# Altium integrated library TI_Logic_Specialty_Logic.IntLib: 2504 symbols (part 80 of 81)
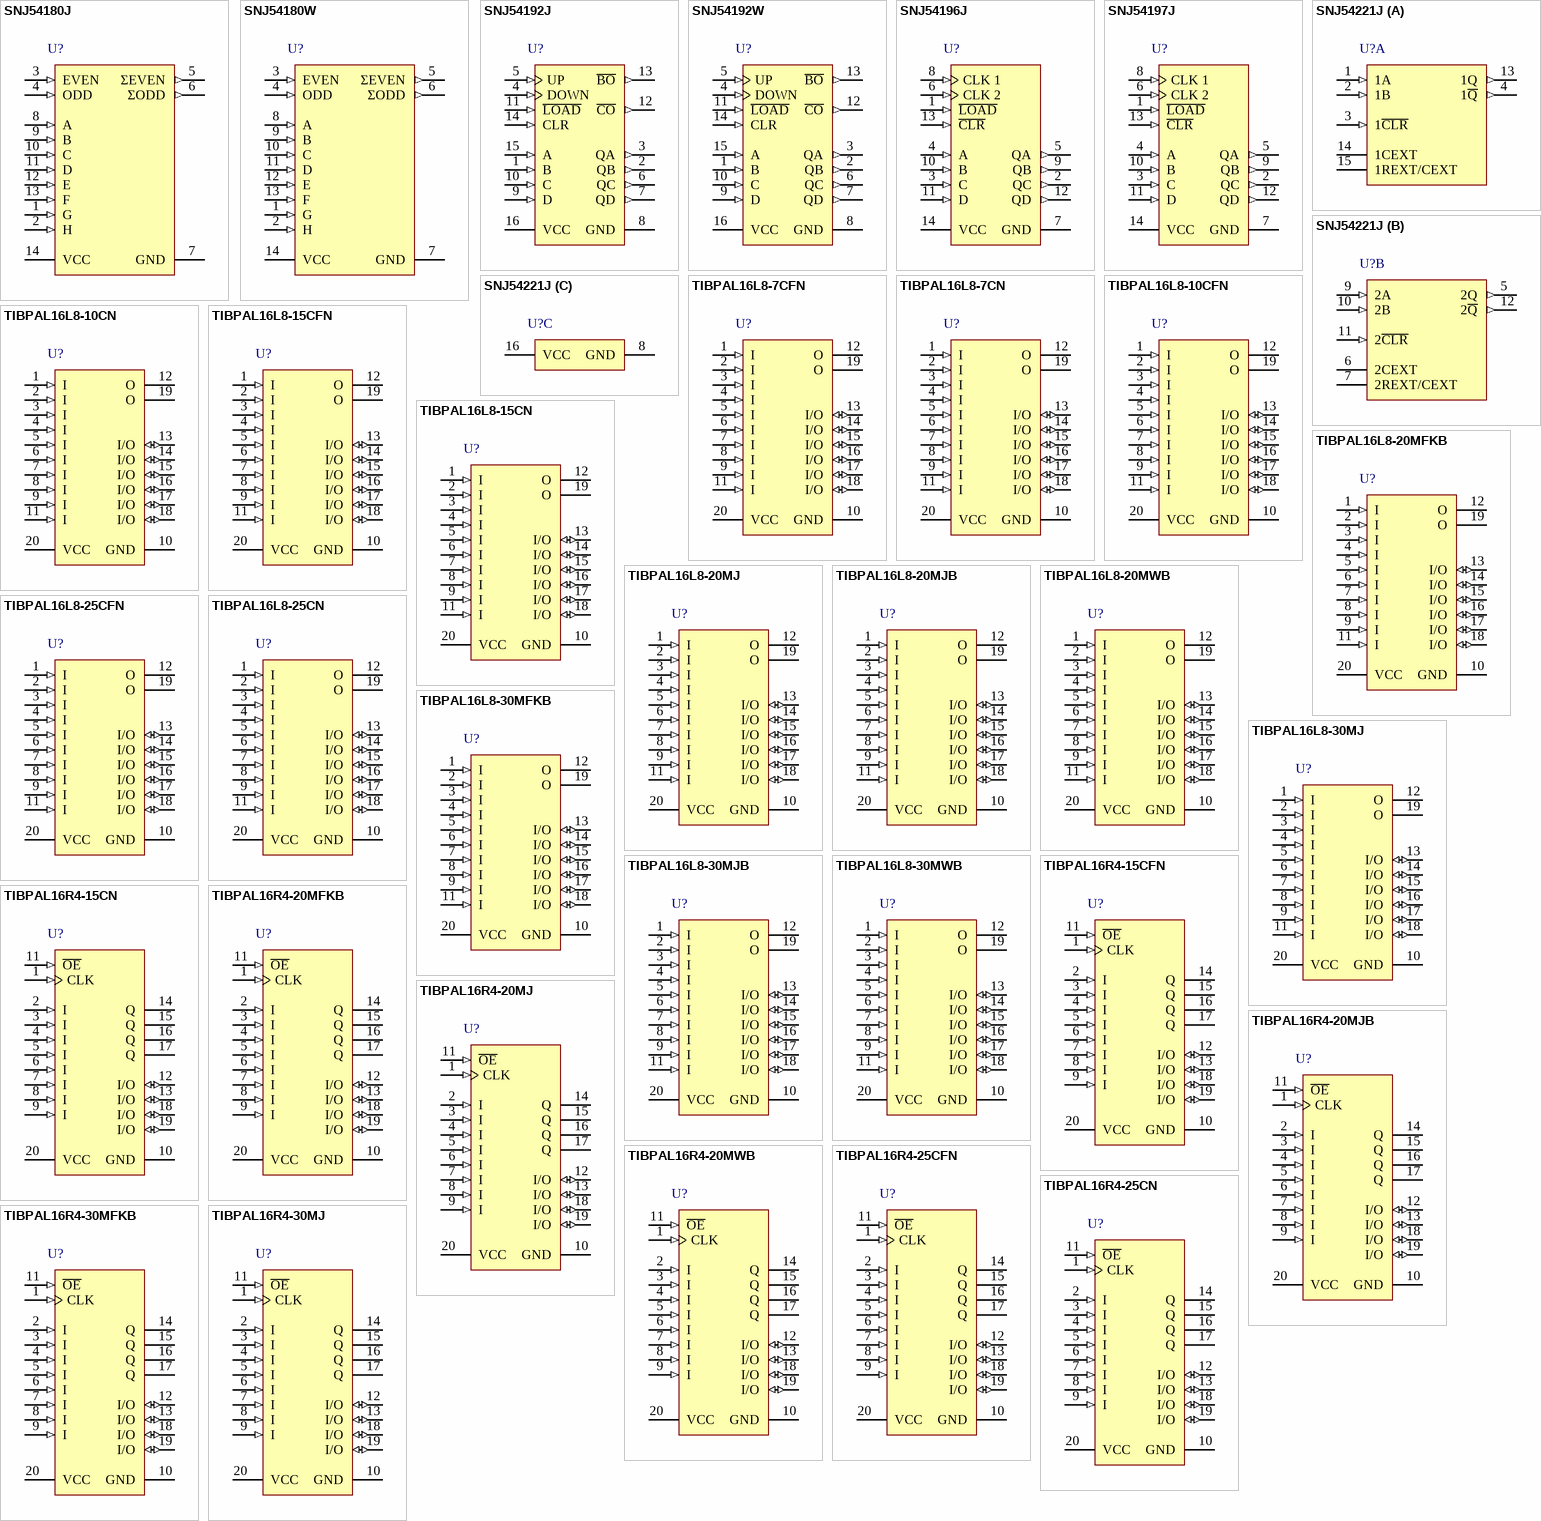
[diagram p183: symbols SNJ54180J to TIBPAL16R4-30MJ]

## SNJ54180W
designator U?
9-Bit Odd/Even Parity Generators/Checkers, W0014A, TUBE; Generic Part Number: SN54180; Manufacturer: Texas Instruments; PartNumber: SNJ54180W; Rating: Military; Technology Family: TTL; PackageReference: W0014A; Operating Temperature Range(C): -55 to 125; ComponentLink1Description: Manufacturer URL; ComponentLink1URL: http://www.ti.com/; ComponentLink2Description: Datasheet; ComponentLink2URL: http://www.ti.com/lit/ds/symlink/sn54180.pdf; ComponentLink3Description: Package Specification; ComponentLink3URL: http://www.ti.com/lit/ml/mcfp002c/mcfp002c.pdf
footprint W0014A_N (CFP, 14-Leads, Body 9.91x6.6mm, Pitch 1.27mm, IPC Medium Density)
footprint W0014A_M (CFP, 14-Leads, Body 9.91x6.6mm, Pitch 1.27mm, IPC Low Density)
footprint W0014A_L (CFP, 14-Leads, Body 9.91x6.6mm, Pitch 1.27mm, IPC High Density)
pins: 1 G (in), 2 H (in), 3 EVEN (in), 4 ODD (in), 5 ΣEVEN (out), 6 ΣODD (out), 7 GND (power), 8 A (in), 9 B (in), 10 C (in), 11 D (in), 12 E (in), 13 F (in), 14 VCC (power)

## SNJ54192J
designator U?
Synchronous 4-Bit Up/Down Counters (Dual Clock With Clear), J0016A, TUBE; Generic Part Number: SN54192; Manufacturer: Texas Instruments; PartNumber: SNJ54192J; Rating: Military; Technology Family: TTL; DatasheetVersion: SDLS074; PackageReference: J0016A; Operating Temperature Range(C): -55 to 125; ComponentLink1Description: Manufacturer URL; ComponentLink1URL: http://www.ti.com/; ComponentLink2Description: Datasheet; ComponentLink2URL: http://www.ti.com/lit/ds/symlink/sn54192.pdf; ComponentLink3Description: Package Specification; ComponentLink3URL: http://www.ti.com/lit/ml/mcer002d/mcer002d.pdf
footprint J0016A (DIP, 16-Leads, Body 21.35x7.2mm, Pitch 2.54mm)
pins: 1 B (in), 2 QB (out), 3 QA (out), 4 DOWN (in), 5 UP (in), 6 QC (out), 7 QD (out), 8 GND (power), 9 D (in), 10 C (in), 11 ~{LOAD} (in), 12 ~{CO} (out), 13 ~{BO} (out), 14 CLR (in), 15 A (in), 16 VCC (power)

## SNJ54192W
designator U?
Synchronous 4-Bit Up/Down Counters (Dual Clock With Clear), W0016A, TUBE; Generic Part Number: SN54192; Manufacturer: Texas Instruments; PartNumber: SNJ54192W; Rating: Military; Technology Family: TTL; DatasheetVersion: SDLS074; PackageReference: W0016A; Operating Temperature Range(C): -55 to 125; ComponentLink1Description: Manufacturer URL; ComponentLink1URL: http://www.ti.com/; ComponentLink2Description: Datasheet; ComponentLink2URL: http://www.ti.com/lit/ds/symlink/sn54192.pdf; ComponentLink3Description: Package Specification; ComponentLink3URL: http://www.ti.com/lit/ml/mcfp004c/mcfp004c.pdf
footprint W0016A_N (CFP, 16-Leads, Body 10.92x7.24mm, Pitch 1.27mm, IPC Medium Density)
footprint W0016A_M (CFP, 16-Leads, Body 10.92x7.24mm, Pitch 1.27mm, IPC Low Density)
footprint W0016A_L (CFP, 16-Leads, Body 10.92x7.24mm, Pitch 1.27mm, IPC High Density)
pins: 1 B (in), 2 QB (out), 3 QA (out), 4 DOWN (in), 5 UP (in), 6 QC (out), 7 QD (out), 8 GND (power), 9 D (in), 10 C (in), 11 ~{LOAD} (in), 12 ~{CO} (out), 13 ~{BO} (out), 14 CLR (in), 15 A (in), 16 VCC (power)

## SNJ54196J
designator U?
50/30/100-Mhz Presettable Decade OR Binary Counters/Latches, J0014A, TUBE; Generic Part Number: SN54196; Manufacturer: Texas Instruments; PartNumber: SNJ54196J; Rating: Military; Technology Family: TTL; DatasheetVersion: SDLS077; PackageReference: J0014A; Operating Temperature Range(C): -55 to 125; ComponentLink1Description: Manufacturer URL; ComponentLink1URL: http://www.ti.com/; ComponentLink2Description: Datasheet; ComponentLink2URL: http://www.ti.com/lit/ds/symlink/sn54196.pdf; ComponentLink3Description: Package Specification; ComponentLink3URL: http://www.ti.com/lit/ml/mcer002d/mcer002d.pdf
footprint J0014A (DIP, 14-Leads, Body 19.95x7.2mm, Pitch 2.54mm)
pins: 1 ~{LOAD} (in), 2 QC (out), 3 C (in), 4 A (in), 5 QA (out), 6 CLK 2 (in), 7 GND (power), 8 CLK 1 (in), 9 QB (out), 10 B (in), 11 D (in), 12 QD (out), 13 ~{CLR} (in), 14 VCC (power)

## SNJ54197J
designator U?
50/30/100-Mhz Presettable Decade OR Binary Counters/Latches, J0014A, TUBE; Generic Part Number: SN54197; Manufacturer: Texas Instruments; PartNumber: SNJ54197J; Rating: Military; Technology Family: TTL; DatasheetVersion: SDLS077; PackageReference: J0014A; Operating Temperature Range(C): -55 to 125; ComponentLink1Description: Manufacturer URL; ComponentLink1URL: http://www.ti.com/; ComponentLink2Description: Datasheet; ComponentLink2URL: http://www.ti.com/lit/ds/symlink/sn54197.pdf; ComponentLink3Description: Package Specification; ComponentLink3URL: http://www.ti.com/lit/ml/mcer002d/mcer002d.pdf
footprint J0014A (DIP, 14-Leads, Body 19.95x7.2mm, Pitch 2.54mm)
pins: 1 ~{LOAD} (in), 2 QC (out), 3 C (in), 4 A (in), 5 QA (out), 6 CLK 2 (in), 7 GND (power), 8 CLK 1 (in), 9 QB (out), 10 B (in), 11 D (in), 12 QD (out), 13 ~{CLR} (in), 14 VCC (power)

## SNJ54221J
designator U?
Dual Monostable Multivibrators With Schmitt-trigger Inputs, J0016A, TUBE; Generic Part Number: SN54221; Manufacturer: Texas Instruments; PartNumber: SNJ54221J; VCC(Min)(V): 4.75; VCC(Max)(V): 5.25; Output Type: TTL; ICC @ Nom Voltage(Max)(mA): 80; Bits(#): 2; Rating: Military; Output Drive (IOL/IOH)(Max)(mA): 16/-0.8; DatasheetVersion: SDLS213B; PackageReference: J0016A; Input Type: TTL; Operating Temperature Range(C): -55 to 125; Technology Family: TTL; tpd @ Nom Voltage(Max)(ns): 80; ComponentLink1Description: Manufacturer URL; ComponentLink1URL: http://www.ti.com/; ComponentLink2Description: Datasheet; ComponentLink2URL: http://www.ti.com/lit/ds/symlink/sn54221.pdf; ComponentLink3Description: Package Specification; ComponentLink3URL: http://www.ti.com/lit/ml/mcer002d/mcer002d.pdf
footprint J0016A (DIP, 16-Leads, Body 21.35x7.2mm, Pitch 2.54mm)
part A pins: 1 1A (in), 2 1B (in), 3 1~{CLR} (in), 4 1~{Q} (out), 13 1Q (out), 14 1CEXT, 15 1REXT/CEXT
part B pins: 5 2Q (out), 6 2CEXT, 7 2REXT/CEXT, 9 2A (in), 10 2B (in), 11 2~{CLR} (in), 12 2~{Q} (out)
part C pins: 8 GND (power), 16 VCC (power)

## TIBPAL16L8-7CFN
designator U?
High-Performance Impact-X<TM> PAL<R> Circuits, FN0020A, TUBE; Generic Part Number: TIBPAL16L8-7C; Manufacturer: Texas Instruments; PartNumber: TIBPAL16L8-7CFN; DatasheetVersion: SRPS006E; PackageReference: FN0020A; Supplier 1: Mouser; Supplier Part Number 1: 595-TIBPAL16L8-7CFN; Supplier 2: Digi-Key; Supplier Part Number 2: 296-34236-5-ND; ComponentLink1Description: Manufacturer URL; ComponentLink1URL: http://www.ti.com/; ComponentLink2Description: Datasheet; ComponentLink2URL: http://www.ti.com/lit/ds/symlink/tibpal16l8-7c.pdf
footprint FN0020A_N (Leaded Chip Carrier, 20-Leads, Body 9.04x9.04mm, Pitch 1.27mm, IPC Medium Density)
footprint FN0020A_M (Leaded Chip Carrier, 20-Leads, Body 9.04x9.04mm, Pitch 1.27mm, IPC Low Density)
footprint FN0020A_L (Leaded Chip Carrier, 20-Leads, Body 9.04x9.04mm, Pitch 1.27mm, IPC High Density)
pins: 1 I (in), 2 I (in), 3 I (in), 4 I (in), 5 I (in), 6 I (in), 7 I (in), 8 I (in), 9 I (in), 10 GND (power), 11 I (in), 12 O (hiz), 13 I/O (io), 14 I/O (io), 15 I/O (io), 16 I/O (io), 17 I/O (io), 18 I/O (io), 19 O (hiz), 20 VCC (power)

## TIBPAL16L8-7CN
designator U?
High-Performance Impact-X<TM> PAL<R> Circuits, N0020A, TUBE; Generic Part Number: TIBPAL16L8-7C; Manufacturer: Texas Instruments; PartNumber: TIBPAL16L8-7CN; DatasheetVersion: SRPS006E; PackageReference: N0020A; Supplier 1: Mouser; Supplier Part Number 1: 595-TIBPAL16L8-7CN; Supplier 2: Digi-Key; Supplier Part Number 2: 296-10088-5-ND; Mounting Technology: Through Hole; ComponentLink1Description: Manufacturer URL; ComponentLink1URL: http://www.ti.com/; ComponentLink2Description: Datasheet; ComponentLink2URL: http://www.ti.com/lit/ds/symlink/tibpal16l8-7c.pdf
footprint N0020A (DIP, 20-Leads, Body 26.9x6.6mm, Pitch 2.54mm)
pins: 1 I (in), 2 I (in), 3 I (in), 4 I (in), 5 I (in), 6 I (in), 7 I (in), 8 I (in), 9 I (in), 10 GND (power), 11 I (in), 12 O (hiz), 13 I/O (io), 14 I/O (io), 15 I/O (io), 16 I/O (io), 17 I/O (io), 18 I/O (io), 19 O (hiz), 20 VCC (power)

## TIBPAL16L8-10CFN
designator U?
High-Performance Impact-X<TM> PAL<R> Circuits, FN0020A, TUBE; Generic Part Number: TIBPAL16L8-10C; Manufacturer: Texas Instruments; PartNumber: TIBPAL16L8-10CFN; DatasheetVersion: SRPS017A; PackageReference: FN0020A; Supplier 1: Mouser; Supplier Part Number 1: 595-TIBPAL16L8-10CFN; Supplier 2: Digi-Key; Supplier Part Number 2: 296-10082-5-ND; ComponentLink1Description: Manufacturer URL; ComponentLink1URL: http://www.ti.com/; ComponentLink2Description: Datasheet; ComponentLink2URL: http://www.ti.com/lit/ds/symlink/tibpal16l8-10c.pdf
footprint FN0020A_N (Leaded Chip Carrier, 20-Leads, Body 9.04x9.04mm, Pitch 1.27mm, IPC Medium Density)
footprint FN0020A_M (Leaded Chip Carrier, 20-Leads, Body 9.04x9.04mm, Pitch 1.27mm, IPC Low Density)
footprint FN0020A_L (Leaded Chip Carrier, 20-Leads, Body 9.04x9.04mm, Pitch 1.27mm, IPC High Density)
pins: 1 I (in), 2 I (in), 3 I (in), 4 I (in), 5 I (in), 6 I (in), 7 I (in), 8 I (in), 9 I (in), 10 GND (power), 11 I (in), 12 O (hiz), 13 I/O (io), 14 I/O (io), 15 I/O (io), 16 I/O (io), 17 I/O (io), 18 I/O (io), 19 O (hiz), 20 VCC (power)

## TIBPAL16L8-10CN
designator U?
High-Performance Impact-X<TM> PAL<R> Circuits, N0020A, TUBE; Generic Part Number: TIBPAL16L8-10C; Manufacturer: Texas Instruments; PartNumber: TIBPAL16L8-10CN; DatasheetVersion: SRPS017A; PackageReference: N0020A; Supplier 1: Mouser; Supplier Part Number 1: 595-TIBPAL16L8-10CN; Supplier 2: Digi-Key; Supplier Part Number 2: 296-10083-5-ND; Mounting Technology: Through Hole; ComponentLink1Description: Manufacturer URL; ComponentLink1URL: http://www.ti.com/; ComponentLink2Description: Datasheet; ComponentLink2URL: http://www.ti.com/lit/ds/symlink/tibpal16l8-10c.pdf
footprint N0020A (DIP, 20-Leads, Body 26.9x6.6mm, Pitch 2.54mm)
pins: 1 I (in), 2 I (in), 3 I (in), 4 I (in), 5 I (in), 6 I (in), 7 I (in), 8 I (in), 9 I (in), 10 GND (power), 11 I (in), 12 O (hiz), 13 I/O (io), 14 I/O (io), 15 I/O (io), 16 I/O (io), 17 I/O (io), 18 I/O (io), 19 O (hiz), 20 VCC (power)

## TIBPAL16L8-15CFN
designator U?
High-Performance Impact<TM> PAL<R> Circuits, FN0020A, TUBE; Generic Part Number: TIBPAL16L8-15C; Manufacturer: Texas Instruments; PartNumber: TIBPAL16L8-15CFN; DatasheetVersion: SRPS019A; PackageReference: FN0020A; Supplier 1: Mouser; Supplier Part Number 1: 595-TIBPAL16L8-15CFN; Supplier 2: Digi-Key; Supplier Part Number 2: 296-10084-5-ND; ComponentLink1Description: Manufacturer URL; ComponentLink1URL: http://www.ti.com/; ComponentLink2Description: Datasheet; ComponentLink2URL: http://www.ti.com/lit/ds/symlink/tibpal16l8-15c.pdf
footprint FN0020A_N (Leaded Chip Carrier, 20-Leads, Body 9.04x9.04mm, Pitch 1.27mm, IPC Medium Density)
footprint FN0020A_M (Leaded Chip Carrier, 20-Leads, Body 9.04x9.04mm, Pitch 1.27mm, IPC Low Density)
footprint FN0020A_L (Leaded Chip Carrier, 20-Leads, Body 9.04x9.04mm, Pitch 1.27mm, IPC High Density)
pins: 1 I (in), 2 I (in), 3 I (in), 4 I (in), 5 I (in), 6 I (in), 7 I (in), 8 I (in), 9 I (in), 10 GND (power), 11 I (in), 12 O (hiz), 13 I/O (io), 14 I/O (io), 15 I/O (io), 16 I/O (io), 17 I/O (io), 18 I/O (io), 19 O (hiz), 20 VCC (power)

## TIBPAL16L8-15CN
designator U?
High-Performance Impact<TM> PAL<R> Circuits, N0020A, TUBE; Generic Part Number: TIBPAL16L8-15C; Manufacturer: Texas Instruments; PartNumber: TIBPAL16L8-15CN; DatasheetVersion: SRPS019A; PackageReference: N0020A; Supplier 1: Mouser; Supplier Part Number 1: 595-TIBPAL16L8-15CN; Supplier 2: Digi-Key; Supplier Part Number 2: 296-10085-5-ND; Mounting Technology: Through Hole; ComponentLink1Description: Manufacturer URL; ComponentLink1URL: http://www.ti.com/; ComponentLink2Description: Datasheet; ComponentLink2URL: http://www.ti.com/lit/ds/symlink/tibpal16l8-15c.pdf
footprint N0020A (DIP, 20-Leads, Body 26.9x6.6mm, Pitch 2.54mm)
pins: 1 I (in), 2 I (in), 3 I (in), 4 I (in), 5 I (in), 6 I (in), 7 I (in), 8 I (in), 9 I (in), 10 GND (power), 11 I (in), 12 O (hiz), 13 I/O (io), 14 I/O (io), 15 I/O (io), 16 I/O (io), 17 I/O (io), 18 I/O (io), 19 O (hiz), 20 VCC (power)

## TIBPAL16L8-20MFKB
designator U?
High-Performance Impact<TM> PAL<R> Circuits, FK0020A, TUBE; Generic Part Number: TIBPAL16L8-20M; Manufacturer: Texas Instruments; PartNumber: TIBPAL16L8-20MFKB; Voltage Node(Nom)(V): 5; Rating: Military; DatasheetVersion: SRPS019A; PackageReference: FK0020A; Operating Temperature Range(C): -55 to 125; Code_JEDEC: MS-004; ComponentLink1Description: Manufacturer URL; ComponentLink1URL: http://www.ti.com/; ComponentLink2Description: Datasheet; ComponentLink2URL: http://www.ti.com/lit/ds/symlink/tibpal16l8-20m.pdf; ComponentLink3Description: Package Specification; ComponentLink3URL: http://www.ti.com/lit/ml/mlcc006d/mlcc006d.pdf
footprint FK0020A_N (LCC, 20-Leads, Body 8.9x8.9mm, Pitch 1.27mm, IPC Medium Density)
footprint FK0020A_M (LCC, 20-Leads, Body 8.9x8.9mm, Pitch 1.27mm, IPC Low Density)
footprint FK0020A_L (LCC, 20-Leads, Body 8.9x8.9mm, Pitch 1.27mm, IPC High Density)
pins: 1 I (in), 2 I (in), 3 I (in), 4 I (in), 5 I (in), 6 I (in), 7 I (in), 8 I (in), 9 I (in), 10 GND (power), 11 I (in), 12 O (hiz), 13 I/O (io), 14 I/O (io), 15 I/O (io), 16 I/O (io), 17 I/O (io), 18 I/O (io), 19 O (hiz), 20 VCC (power)

## TIBPAL16L8-20MJ
designator U?
High-Performance Impact<TM> PAL<R> Circuits, J0020A, TUBE; Generic Part Number: TIBPAL16L8-20M; Manufacturer: Texas Instruments; PartNumber: TIBPAL16L8-20MJ; Voltage Node(Nom)(V): 5; Rating: Military; DatasheetVersion: SRPS019A; PackageReference: J0020A; Operating Temperature Range(C): -55 to 125; ComponentLink1Description: Manufacturer URL; ComponentLink1URL: http://www.ti.com/; ComponentLink2Description: Datasheet; ComponentLink2URL: http://www.ti.com/lit/ds/symlink/tibpal16l8-20m.pdf
footprint J0020A (DIP, 20-Leads, Body 26.9x7.2mm, Pitch 2.54mm)
pins: 1 I (in), 2 I (in), 3 I (in), 4 I (in), 5 I (in), 6 I (in), 7 I (in), 8 I (in), 9 I (in), 10 GND (power), 11 I (in), 12 O (hiz), 13 I/O (io), 14 I/O (io), 15 I/O (io), 16 I/O (io), 17 I/O (io), 18 I/O (io), 19 O (hiz), 20 VCC (power)

## TIBPAL16L8-20MJB
designator U?
High-Performance Impact<TM> PAL<R> Circuits, J0020A, TUBE; Generic Part Number: TIBPAL16L8-20M; Manufacturer: Texas Instruments; PartNumber: TIBPAL16L8-20MJB; Voltage Node(Nom)(V): 5; Rating: Military; DatasheetVersion: SRPS019A; PackageReference: J0020A; Operating Temperature Range(C): -55 to 125; ComponentLink1Description: Manufacturer URL; ComponentLink1URL: http://www.ti.com/; ComponentLink2Description: Datasheet; ComponentLink2URL: http://www.ti.com/lit/ds/symlink/tibpal16l8-20m.pdf
footprint J0020A (DIP, 20-Leads, Body 26.9x7.2mm, Pitch 2.54mm)
pins: 1 I (in), 2 I (in), 3 I (in), 4 I (in), 5 I (in), 6 I (in), 7 I (in), 8 I (in), 9 I (in), 10 GND (power), 11 I (in), 12 O (hiz), 13 I/O (io), 14 I/O (io), 15 I/O (io), 16 I/O (io), 17 I/O (io), 18 I/O (io), 19 O (hiz), 20 VCC (power)

## TIBPAL16L8-20MWB
designator U?
High-Performance Impact<TM> PAL<R> Circuits, W0020A, TUBE; Generic Part Number: TIBPAL16L8-20M; Manufacturer: Texas Instruments; PartNumber: TIBPAL16L8-20MWB; Voltage Node(Nom)(V): 5; Rating: Military; DatasheetVersion: SRPS019A; PackageReference: W0020A; Operating Temperature Range(C): -55 to 125; ComponentLink1Description: Manufacturer URL; ComponentLink1URL: http://www.ti.com/; ComponentLink2Description: Datasheet; ComponentLink2URL: http://www.ti.com/lit/ds/symlink/tibpal16l8-20m.pdf
footprint W0020A_N (CFP, 20-Leads, Body 13.72x7.62mm, Pitch 1.27mm, IPC Medium Density)
footprint W0020A_M (CFP, 20-Leads, Body 13.72x7.62mm, Pitch 1.27mm, IPC Low Density)
footprint W0020A_L (CFP, 20-Leads, Body 13.72x7.62mm, Pitch 1.27mm, IPC High Density)
pins: 1 I (in), 2 I (in), 3 I (in), 4 I (in), 5 I (in), 6 I (in), 7 I (in), 8 I (in), 9 I (in), 10 GND (power), 11 I (in), 12 O (hiz), 13 I/O (io), 14 I/O (io), 15 I/O (io), 16 I/O (io), 17 I/O (io), 18 I/O (io), 19 O (hiz), 20 VCC (power)

## TIBPAL16L8-25CFN
designator U?
Low-Power High-Performance Impact<TM> PAL<R> Circuits, FN0020A, TUBE; Generic Part Number: TIBPAL16L8-25C; Manufacturer: Texas Instruments; PartNumber: TIBPAL16L8-25CFN; DatasheetVersion: SRPS059A; PackageReference: FN0020A; Supplier 1: Mouser; Supplier Part Number 1: 595-TIBPAL16L8-25CFN; Supplier 2: Digi-Key; Supplier Part Number 2: 296-10086-5-ND; ComponentLink1Description: Manufacturer URL; ComponentLink1URL: http://www.ti.com/; ComponentLink2Description: Datasheet; ComponentLink2URL: http://www.ti.com/lit/ds/symlink/tibpal16l8-25c.pdf
footprint FN0020A_N (Leaded Chip Carrier, 20-Leads, Body 9.04x9.04mm, Pitch 1.27mm, IPC Medium Density)
footprint FN0020A_M (Leaded Chip Carrier, 20-Leads, Body 9.04x9.04mm, Pitch 1.27mm, IPC Low Density)
footprint FN0020A_L (Leaded Chip Carrier, 20-Leads, Body 9.04x9.04mm, Pitch 1.27mm, IPC High Density)
pins: 1 I (in), 2 I (in), 3 I (in), 4 I (in), 5 I (in), 6 I (in), 7 I (in), 8 I (in), 9 I (in), 10 GND (power), 11 I (in), 12 O (hiz), 13 I/O (io), 14 I/O (io), 15 I/O (io), 16 I/O (io), 17 I/O (io), 18 I/O (io), 19 O (hiz), 20 VCC (power)

## TIBPAL16L8-25CN
designator U?
Low-Power High-Performance Impact<TM> PAL<R> Circuits, N0020A, TUBE; Generic Part Number: TIBPAL16L8-25C; Manufacturer: Texas Instruments; PartNumber: TIBPAL16L8-25CN; DatasheetVersion: SRPS059A; PackageReference: N0020A; Supplier 1: Mouser; Supplier Part Number 1: 595-TIBPAL16L8-25CN; Supplier 2: Digi-Key; Supplier Part Number 2: 296-10087-5-ND; Mounting Technology: Through Hole; ComponentLink1Description: Manufacturer URL; ComponentLink1URL: http://www.ti.com/; ComponentLink2Description: Datasheet; ComponentLink2URL: http://www.ti.com/lit/ds/symlink/tibpal16l8-25c.pdf
footprint N0020A (DIP, 20-Leads, Body 26.9x6.6mm, Pitch 2.54mm)
pins: 1 I (in), 2 I (in), 3 I (in), 4 I (in), 5 I (in), 6 I (in), 7 I (in), 8 I (in), 9 I (in), 10 GND (power), 11 I (in), 12 O (hiz), 13 I/O (io), 14 I/O (io), 15 I/O (io), 16 I/O (io), 17 I/O (io), 18 I/O (io), 19 O (hiz), 20 VCC (power)

## TIBPAL16L8-30MFKB
designator U?
Low-Power High-Performance Impact<TM> PAL<R> Circuits, FK0020A, TUBE; Generic Part Number: TIBPAL16L8-30M; Manufacturer: Texas Instruments; PartNumber: TIBPAL16L8-30MFKB; Voltage Node(Nom)(V): 5; Rating: Military; DatasheetVersion: SRPS059A; PackageReference: FK0020A; Operating Temperature Range(C): -55 to 125; Code_JEDEC: MS-004; ComponentLink1Description: Manufacturer URL; ComponentLink1URL: http://www.ti.com/; ComponentLink2Description: Datasheet; ComponentLink2URL: http://www.ti.com/lit/ds/symlink/tibpal16l8-30m.pdf; ComponentLink3Description: Package Specification; ComponentLink3URL: http://www.ti.com/lit/ml/mlcc006d/mlcc006d.pdf
footprint FK0020A_N (LCC, 20-Leads, Body 8.9x8.9mm, Pitch 1.27mm, IPC Medium Density)
footprint FK0020A_M (LCC, 20-Leads, Body 8.9x8.9mm, Pitch 1.27mm, IPC Low Density)
footprint FK0020A_L (LCC, 20-Leads, Body 8.9x8.9mm, Pitch 1.27mm, IPC High Density)
pins: 1 I (in), 2 I (in), 3 I (in), 4 I (in), 5 I (in), 6 I (in), 7 I (in), 8 I (in), 9 I (in), 10 GND (power), 11 I (in), 12 O (hiz), 13 I/O (io), 14 I/O (io), 15 I/O (io), 16 I/O (io), 17 I/O (io), 18 I/O (io), 19 O (hiz), 20 VCC (power)

## TIBPAL16L8-30MJ
designator U?
Low-Power High-Performance Impact<TM> PAL<R> Circuits, J0020A, TUBE; Generic Part Number: TIBPAL16L8-30M; Manufacturer: Texas Instruments; PartNumber: TIBPAL16L8-30MJ; Voltage Node(Nom)(V): 5; Rating: Military; DatasheetVersion: SRPS059A; PackageReference: J0020A; Operating Temperature Range(C): -55 to 125; ComponentLink1Description: Manufacturer URL; ComponentLink1URL: http://www.ti.com/; ComponentLink2Description: Datasheet; ComponentLink2URL: http://www.ti.com/lit/ds/symlink/tibpal16l8-30m.pdf
footprint J0020A (DIP, 20-Leads, Body 26.9x7.2mm, Pitch 2.54mm)
pins: 1 I (in), 2 I (in), 3 I (in), 4 I (in), 5 I (in), 6 I (in), 7 I (in), 8 I (in), 9 I (in), 10 GND (power), 11 I (in), 12 O (hiz), 13 I/O (io), 14 I/O (io), 15 I/O (io), 16 I/O (io), 17 I/O (io), 18 I/O (io), 19 O (hiz), 20 VCC (power)

## TIBPAL16L8-30MJB
designator U?
Low-Power High-Performance Impact<TM> PAL<R> Circuits, J0020A, TUBE; Generic Part Number: TIBPAL16L8-30M; Manufacturer: Texas Instruments; PartNumber: TIBPAL16L8-30MJB; Voltage Node(Nom)(V): 5; Rating: Military; DatasheetVersion: SRPS059A; PackageReference: J0020A; Operating Temperature Range(C): -55 to 125; ComponentLink1Description: Manufacturer URL; ComponentLink1URL: http://www.ti.com/; ComponentLink2Description: Datasheet; ComponentLink2URL: http://www.ti.com/lit/ds/symlink/tibpal16l8-30m.pdf
footprint J0020A (DIP, 20-Leads, Body 26.9x7.2mm, Pitch 2.54mm)
pins: 1 I (in), 2 I (in), 3 I (in), 4 I (in), 5 I (in), 6 I (in), 7 I (in), 8 I (in), 9 I (in), 10 GND (power), 11 I (in), 12 O (hiz), 13 I/O (io), 14 I/O (io), 15 I/O (io), 16 I/O (io), 17 I/O (io), 18 I/O (io), 19 O (hiz), 20 VCC (power)

## TIBPAL16L8-30MWB
designator U?
Low-Power High-Performance Impact<TM> PAL<R> Circuits, W0020A, TUBE; Generic Part Number: TIBPAL16L8-30M; Manufacturer: Texas Instruments; PartNumber: TIBPAL16L8-30MWB; Voltage Node(Nom)(V): 5; Rating: Military; DatasheetVersion: SRPS059A; PackageReference: W0020A; Operating Temperature Range(C): -55 to 125; ComponentLink1Description: Manufacturer URL; ComponentLink1URL: http://www.ti.com/; ComponentLink2Description: Datasheet; ComponentLink2URL: http://www.ti.com/lit/ds/symlink/tibpal16l8-30m.pdf
footprint W0020A_N (CFP, 20-Leads, Body 13.72x7.62mm, Pitch 1.27mm, IPC Medium Density)
footprint W0020A_M (CFP, 20-Leads, Body 13.72x7.62mm, Pitch 1.27mm, IPC Low Density)
footprint W0020A_L (CFP, 20-Leads, Body 13.72x7.62mm, Pitch 1.27mm, IPC High Density)
pins: 1 I (in), 2 I (in), 3 I (in), 4 I (in), 5 I (in), 6 I (in), 7 I (in), 8 I (in), 9 I (in), 10 GND (power), 11 I (in), 12 O (hiz), 13 I/O (io), 14 I/O (io), 15 I/O (io), 16 I/O (io), 17 I/O (io), 18 I/O (io), 19 O (hiz), 20 VCC (power)

## TIBPAL16R4-15CFN
designator U?
High-Performance Impact<TM> PAL<R> Circuits, FN0020A, TUBE; Generic Part Number: TIBPAL16R4-15C; Manufacturer: Texas Instruments; PartNumber: TIBPAL16R4-15CFN; DatasheetVersion: SRPS019A; PackageReference: FN0020A; Supplier 1: Mouser; Supplier Part Number 1: 595-TIBPAL16R4-15CFN; Supplier 2: Digi-Key; Supplier Part Number 2: TIBPAL16R4-15CFN-ND; ComponentLink1Description: Manufacturer URL; ComponentLink1URL: http://www.ti.com/; ComponentLink2Description: Datasheet; ComponentLink2URL: http://www.ti.com/lit/ds/symlink/tibpal16r4-15c.pdf
footprint FN0020A_N (Leaded Chip Carrier, 20-Leads, Body 9.04x9.04mm, Pitch 1.27mm, IPC Medium Density)
footprint FN0020A_M (Leaded Chip Carrier, 20-Leads, Body 9.04x9.04mm, Pitch 1.27mm, IPC Low Density)
footprint FN0020A_L (Leaded Chip Carrier, 20-Leads, Body 9.04x9.04mm, Pitch 1.27mm, IPC High Density)
pins: 1 CLK (in), 2 I (in), 3 I (in), 4 I (in), 5 I (in), 6 I (in), 7 I (in), 8 I (in), 9 I (in), 10 GND (power), 11 ~{OE} (in), 12 I/O (io), 13 I/O (io), 14 Q (hiz), 15 Q (hiz), 16 Q (hiz), 17 Q (hiz), 18 I/O (io), 19 I/O (io), 20 VCC (power)

## TIBPAL16R4-15CN
designator U?
High-Performance Impact<TM> PAL<R> Circuits, N0020A, TUBE; Generic Part Number: TIBPAL16R4-15C; Manufacturer: Texas Instruments; PartNumber: TIBPAL16R4-15CN; DatasheetVersion: SRPS019A; PackageReference: N0020A; Supplier 1: Mouser; Supplier Part Number 1: 595-TIBPAL16R4-15CN; Supplier 2: Digi-Key; Supplier Part Number 2: 296-10090-5-ND; Mounting Technology: Through Hole; ComponentLink1Description: Manufacturer URL; ComponentLink1URL: http://www.ti.com/; ComponentLink2Description: Datasheet; ComponentLink2URL: http://www.ti.com/lit/ds/symlink/tibpal16r4-15c.pdf
footprint N0020A (DIP, 20-Leads, Body 26.9x6.6mm, Pitch 2.54mm)
pins: 1 CLK (in), 2 I (in), 3 I (in), 4 I (in), 5 I (in), 6 I (in), 7 I (in), 8 I (in), 9 I (in), 10 GND (power), 11 ~{OE} (in), 12 I/O (io), 13 I/O (io), 14 Q (hiz), 15 Q (hiz), 16 Q (hiz), 17 Q (hiz), 18 I/O (io), 19 I/O (io), 20 VCC (power)

## TIBPAL16R4-20MFKB
designator U?
High-Performance Impact<TM> PAL<R> Circuits, FK0020A, TUBE; Generic Part Number: TIBPAL16R4-20M; Manufacturer: Texas Instruments; PartNumber: TIBPAL16R4-20MFKB; Voltage Node(Nom)(V): 5; Rating: Military; DatasheetVersion: SRPS019A; PackageReference: FK0020A; Operating Temperature Range(C): -55 to 125; Code_JEDEC: MS-004; ComponentLink1Description: Manufacturer URL; ComponentLink1URL: http://www.ti.com/; ComponentLink2Description: Datasheet; ComponentLink2URL: http://www.ti.com/lit/ds/symlink/tibpal16r4-20m.pdf; ComponentLink3Description: Package Specification; ComponentLink3URL: http://www.ti.com/lit/ml/mlcc006d/mlcc006d.pdf
footprint FK0020A_N (LCC, 20-Leads, Body 8.9x8.9mm, Pitch 1.27mm, IPC Medium Density)
footprint FK0020A_M (LCC, 20-Leads, Body 8.9x8.9mm, Pitch 1.27mm, IPC Low Density)
footprint FK0020A_L (LCC, 20-Leads, Body 8.9x8.9mm, Pitch 1.27mm, IPC High Density)
pins: 1 CLK (in), 2 I (in), 3 I (in), 4 I (in), 5 I (in), 6 I (in), 7 I (in), 8 I (in), 9 I (in), 10 GND (power), 11 ~{OE} (in), 12 I/O (io), 13 I/O (io), 14 Q (hiz), 15 Q (hiz), 16 Q (hiz), 17 Q (hiz), 18 I/O (io), 19 I/O (io), 20 VCC (power)

## TIBPAL16R4-20MJ
designator U?
High-Performance Impact<TM> PAL<R> Circuits, J0020A, TUBE; Generic Part Number: TIBPAL16R4-20M; Manufacturer: Texas Instruments; PartNumber: TIBPAL16R4-20MJ; Voltage Node(Nom)(V): 5; Rating: Military; DatasheetVersion: SRPS019A; PackageReference: J0020A; Operating Temperature Range(C): -55 to 125; ComponentLink1Description: Manufacturer URL; ComponentLink1URL: http://www.ti.com/; ComponentLink2Description: Datasheet; ComponentLink2URL: http://www.ti.com/lit/ds/symlink/tibpal16r4-20m.pdf
footprint J0020A (DIP, 20-Leads, Body 26.9x7.2mm, Pitch 2.54mm)
pins: 1 CLK (in), 2 I (in), 3 I (in), 4 I (in), 5 I (in), 6 I (in), 7 I (in), 8 I (in), 9 I (in), 10 GND (power), 11 ~{OE} (in), 12 I/O (io), 13 I/O (io), 14 Q (hiz), 15 Q (hiz), 16 Q (hiz), 17 Q (hiz), 18 I/O (io), 19 I/O (io), 20 VCC (power)

## TIBPAL16R4-20MJB
designator U?
High-Performance Impact<TM> PAL<R> Circuits, J0020A, TUBE; Generic Part Number: TIBPAL16R4-20M; Manufacturer: Texas Instruments; PartNumber: TIBPAL16R4-20MJB; Voltage Node(Nom)(V): 5; Rating: Military; DatasheetVersion: SRPS019A; PackageReference: J0020A; Operating Temperature Range(C): -55 to 125; ComponentLink1Description: Manufacturer URL; ComponentLink1URL: http://www.ti.com/; ComponentLink2Description: Datasheet; ComponentLink2URL: http://www.ti.com/lit/ds/symlink/tibpal16r4-20m.pdf
footprint J0020A (DIP, 20-Leads, Body 26.9x7.2mm, Pitch 2.54mm)
pins: 1 CLK (in), 2 I (in), 3 I (in), 4 I (in), 5 I (in), 6 I (in), 7 I (in), 8 I (in), 9 I (in), 10 GND (power), 11 ~{OE} (in), 12 I/O (io), 13 I/O (io), 14 Q (hiz), 15 Q (hiz), 16 Q (hiz), 17 Q (hiz), 18 I/O (io), 19 I/O (io), 20 VCC (power)

## TIBPAL16R4-20MWB
designator U?
High-Performance Impact<TM> PAL<R> Circuits, W0020A, TUBE; Generic Part Number: TIBPAL16R4-20M; Manufacturer: Texas Instruments; PartNumber: TIBPAL16R4-20MWB; Voltage Node(Nom)(V): 5; Rating: Military; DatasheetVersion: SRPS019A; PackageReference: W0020A; Operating Temperature Range(C): -55 to 125; ComponentLink1Description: Manufacturer URL; ComponentLink1URL: http://www.ti.com/; ComponentLink2Description: Datasheet; ComponentLink2URL: http://www.ti.com/lit/ds/symlink/tibpal16r4-20m.pdf
footprint W0020A_N (CFP, 20-Leads, Body 13.72x7.62mm, Pitch 1.27mm, IPC Medium Density)
footprint W0020A_M (CFP, 20-Leads, Body 13.72x7.62mm, Pitch 1.27mm, IPC Low Density)
footprint W0020A_L (CFP, 20-Leads, Body 13.72x7.62mm, Pitch 1.27mm, IPC High Density)
pins: 1 CLK (in), 2 I (in), 3 I (in), 4 I (in), 5 I (in), 6 I (in), 7 I (in), 8 I (in), 9 I (in), 10 GND (power), 11 ~{OE} (in), 12 I/O (io), 13 I/O (io), 14 Q (hiz), 15 Q (hiz), 16 Q (hiz), 17 Q (hiz), 18 I/O (io), 19 I/O (io), 20 VCC (power)

## TIBPAL16R4-25CFN
designator U?
Low-Power High-Performance Impact<TM> PAL<R> Circuits, FN0020A, TUBE; Generic Part Number: TIBPAL16R4-25C; Manufacturer: Texas Instruments; PartNumber: TIBPAL16R4-25CFN; DatasheetVersion: SRPS059A; PackageReference: FN0020A; Supplier 1: Mouser; Supplier Part Number 1: 595-TIBPAL16R4-25CFN; Supplier 2: Digi-Key; Supplier Part Number 2: 296-10091-5-ND; ComponentLink1Description: Manufacturer URL; ComponentLink1URL: http://www.ti.com/; ComponentLink2Description: Datasheet; ComponentLink2URL: http://www.ti.com/lit/ds/symlink/tibpal16r4-25c.pdf
footprint FN0020A_N (Leaded Chip Carrier, 20-Leads, Body 9.04x9.04mm, Pitch 1.27mm, IPC Medium Density)
footprint FN0020A_M (Leaded Chip Carrier, 20-Leads, Body 9.04x9.04mm, Pitch 1.27mm, IPC Low Density)
footprint FN0020A_L (Leaded Chip Carrier, 20-Leads, Body 9.04x9.04mm, Pitch 1.27mm, IPC High Density)
pins: 1 CLK (in), 2 I (in), 3 I (in), 4 I (in), 5 I (in), 6 I (in), 7 I (in), 8 I (in), 9 I (in), 10 GND (power), 11 ~{OE} (in), 12 I/O (io), 13 I/O (io), 14 Q (hiz), 15 Q (hiz), 16 Q (hiz), 17 Q (hiz), 18 I/O (io), 19 I/O (io), 20 VCC (power)

## TIBPAL16R4-25CN
designator U?
Low-Power High-Performance Impact<TM> PAL<R> Circuits, N0020A, TUBE; Generic Part Number: TIBPAL16R4-25C; Manufacturer: Texas Instruments; PartNumber: TIBPAL16R4-25CN; DatasheetVersion: SRPS059A; PackageReference: N0020A; Supplier 1: Mouser; Supplier Part Number 1: 595-TIBPAL16R4-25CN; Supplier 2: Digi-Key; Supplier Part Number 2: 296-26685-5-ND; Mounting Technology: Through Hole; ComponentLink1Description: Manufacturer URL; ComponentLink1URL: http://www.ti.com/; ComponentLink2Description: Datasheet; ComponentLink2URL: http://www.ti.com/lit/ds/symlink/tibpal16r4-25c.pdf
footprint N0020A (DIP, 20-Leads, Body 26.9x6.6mm, Pitch 2.54mm)
pins: 1 CLK (in), 2 I (in), 3 I (in), 4 I (in), 5 I (in), 6 I (in), 7 I (in), 8 I (in), 9 I (in), 10 GND (power), 11 ~{OE} (in), 12 I/O (io), 13 I/O (io), 14 Q (hiz), 15 Q (hiz), 16 Q (hiz), 17 Q (hiz), 18 I/O (io), 19 I/O (io), 20 VCC (power)

## TIBPAL16R4-30MFKB
designator U?
Low-Power High-Performance Impact<TM> PAL<R> Circuits, FK0020A, TUBE; Generic Part Number: TIBPAL16R4-30M; Manufacturer: Texas Instruments; PartNumber: TIBPAL16R4-30MFKB; Voltage Node(Nom)(V): 5; Rating: Military; DatasheetVersion: SRPS059A; PackageReference: FK0020A; Operating Temperature Range(C): -55 to 125; Code_JEDEC: MS-004; ComponentLink1Description: Manufacturer URL; ComponentLink1URL: http://www.ti.com/; ComponentLink2Description: Datasheet; ComponentLink2URL: http://www.ti.com/lit/ds/symlink/tibpal16r4-30m.pdf; ComponentLink3Description: Package Specification; ComponentLink3URL: http://www.ti.com/lit/ml/mlcc006d/mlcc006d.pdf
footprint FK0020A_N (LCC, 20-Leads, Body 8.9x8.9mm, Pitch 1.27mm, IPC Medium Density)
footprint FK0020A_M (LCC, 20-Leads, Body 8.9x8.9mm, Pitch 1.27mm, IPC Low Density)
footprint FK0020A_L (LCC, 20-Leads, Body 8.9x8.9mm, Pitch 1.27mm, IPC High Density)
pins: 1 CLK (in), 2 I (in), 3 I (in), 4 I (in), 5 I (in), 6 I (in), 7 I (in), 8 I (in), 9 I (in), 10 GND (power), 11 ~{OE} (in), 12 I/O (io), 13 I/O (io), 14 Q (hiz), 15 Q (hiz), 16 Q (hiz), 17 Q (hiz), 18 I/O (io), 19 I/O (io), 20 VCC (power)

## TIBPAL16R4-30MJ
designator U?
Low-Power High-Performance Impact<TM> PAL<R> Circuits, J0020A, TUBE; Generic Part Number: TIBPAL16R4-30M; Manufacturer: Texas Instruments; PartNumber: TIBPAL16R4-30MJ; Voltage Node(Nom)(V): 5; Rating: Military; DatasheetVersion: SRPS059A; PackageReference: J0020A; Operating Temperature Range(C): -55 to 125; ComponentLink1Description: Manufacturer URL; ComponentLink1URL: http://www.ti.com/; ComponentLink2Description: Datasheet; ComponentLink2URL: http://www.ti.com/lit/ds/symlink/tibpal16r4-30m.pdf
footprint J0020A (DIP, 20-Leads, Body 26.9x7.2mm, Pitch 2.54mm)
pins: 1 CLK (in), 2 I (in), 3 I (in), 4 I (in), 5 I (in), 6 I (in), 7 I (in), 8 I (in), 9 I (in), 10 GND (power), 11 ~{OE} (in), 12 I/O (io), 13 I/O (io), 14 Q (hiz), 15 Q (hiz), 16 Q (hiz), 17 Q (hiz), 18 I/O (io), 19 I/O (io), 20 VCC (power)

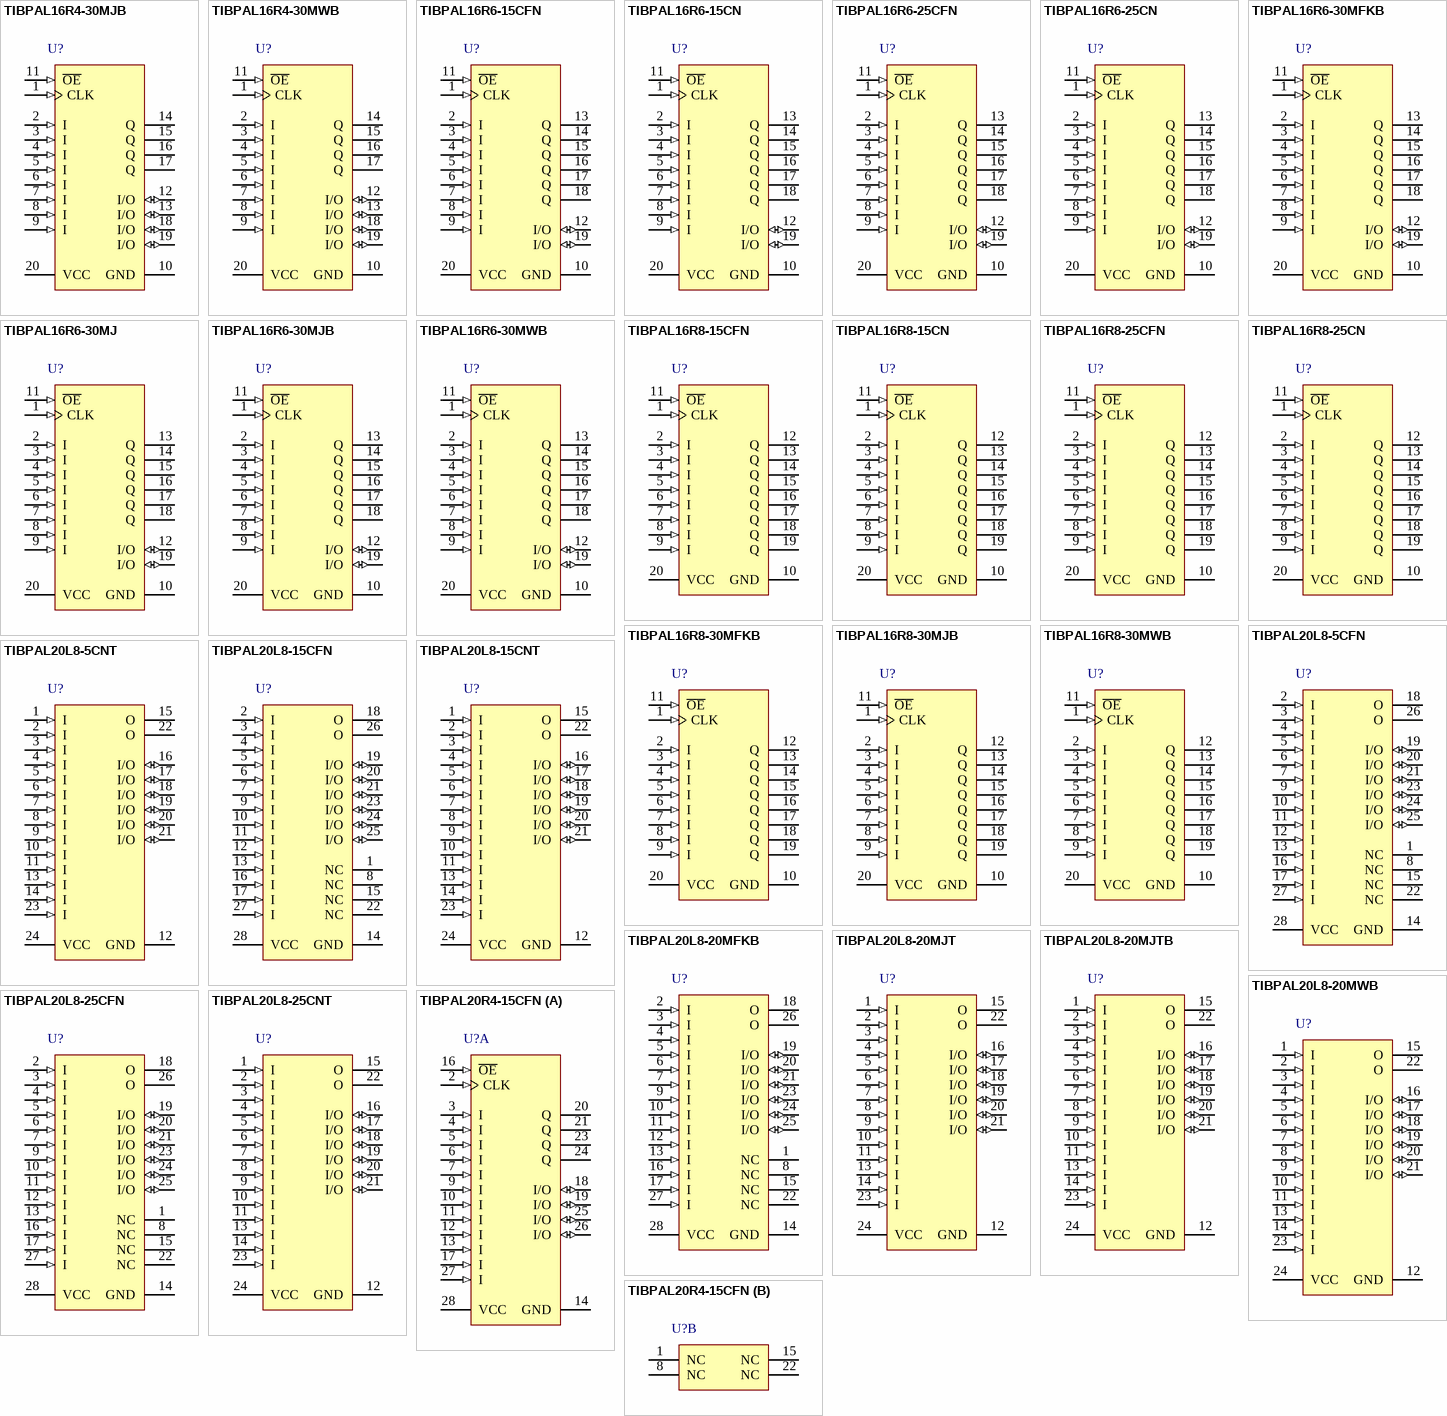
[diagram p102: symbols TIBPAL16R4-30MJB to TIBPAL20R4-15CFN]

## TIBPAL16R4-30MJB
designator U?
Low-Power High-Performance Impact<TM> PAL<R> Circuits, J0020A, TUBE; Generic Part Number: TIBPAL16R4-30M; Manufacturer: Texas Instruments; PartNumber: TIBPAL16R4-30MJB; Voltage Node(Nom)(V): 5; Rating: Military; DatasheetVersion: SRPS059A; PackageReference: J0020A; Operating Temperature Range(C): -55 to 125; ComponentLink1Description: Manufacturer URL; ComponentLink1URL: http://www.ti.com/; ComponentLink2Description: Datasheet; ComponentLink2URL: http://www.ti.com/lit/ds/symlink/tibpal16r4-30m.pdf
footprint J0020A (DIP, 20-Leads, Body 26.9x7.2mm, Pitch 2.54mm)
pins: 1 CLK (in), 2 I (in), 3 I (in), 4 I (in), 5 I (in), 6 I (in), 7 I (in), 8 I (in), 9 I (in), 10 GND (power), 11 ~{OE} (in), 12 I/O (io), 13 I/O (io), 14 Q (hiz), 15 Q (hiz), 16 Q (hiz), 17 Q (hiz), 18 I/O (io), 19 I/O (io), 20 VCC (power)

## TIBPAL16R4-30MWB
designator U?
Low-Power High-Performance Impact<TM> PAL<R> Circuits, W0020A, TUBE; Generic Part Number: TIBPAL16R4-30M; Manufacturer: Texas Instruments; PartNumber: TIBPAL16R4-30MWB; Voltage Node(Nom)(V): 5; Rating: Military; DatasheetVersion: SRPS059A; PackageReference: W0020A; Operating Temperature Range(C): -55 to 125; ComponentLink1Description: Manufacturer URL; ComponentLink1URL: http://www.ti.com/; ComponentLink2Description: Datasheet; ComponentLink2URL: http://www.ti.com/lit/ds/symlink/tibpal16r4-30m.pdf
footprint W0020A_N (CFP, 20-Leads, Body 13.72x7.62mm, Pitch 1.27mm, IPC Medium Density)
footprint W0020A_M (CFP, 20-Leads, Body 13.72x7.62mm, Pitch 1.27mm, IPC Low Density)
footprint W0020A_L (CFP, 20-Leads, Body 13.72x7.62mm, Pitch 1.27mm, IPC High Density)
pins: 1 CLK (in), 2 I (in), 3 I (in), 4 I (in), 5 I (in), 6 I (in), 7 I (in), 8 I (in), 9 I (in), 10 GND (power), 11 ~{OE} (in), 12 I/O (io), 13 I/O (io), 14 Q (hiz), 15 Q (hiz), 16 Q (hiz), 17 Q (hiz), 18 I/O (io), 19 I/O (io), 20 VCC (power)

## TIBPAL16R6-15CFN
designator U?
High-Performance Impact<TM> PAL<R> Circuits, FN0020A, TUBE; Generic Part Number: TIBPAL16R6-15C; Manufacturer: Texas Instruments; PartNumber: TIBPAL16R6-15CFN; DatasheetVersion: SRPS019A; PackageReference: FN0020A; Supplier 1: Mouser; Supplier Part Number 1: 595-TIBPAL16R6-15CFN; Supplier 2: Digi-Key; Supplier Part Number 2: TIBPAL16R6-15CFN-ND; ComponentLink1Description: Manufacturer URL; ComponentLink1URL: http://www.ti.com/; ComponentLink2Description: Datasheet; ComponentLink2URL: http://www.ti.com/lit/ds/symlink/tibpal16r6-15c.pdf
footprint FN0020A_N (Leaded Chip Carrier, 20-Leads, Body 9.04x9.04mm, Pitch 1.27mm, IPC Medium Density)
footprint FN0020A_M (Leaded Chip Carrier, 20-Leads, Body 9.04x9.04mm, Pitch 1.27mm, IPC Low Density)
footprint FN0020A_L (Leaded Chip Carrier, 20-Leads, Body 9.04x9.04mm, Pitch 1.27mm, IPC High Density)
pins: 1 CLK (in), 2 I (in), 3 I (in), 4 I (in), 5 I (in), 6 I (in), 7 I (in), 8 I (in), 9 I (in), 10 GND (power), 11 ~{OE} (in), 12 I/O (io), 13 Q (hiz), 14 Q (hiz), 15 Q (hiz), 16 Q (hiz), 17 Q (hiz), 18 Q (hiz), 19 I/O (io), 20 VCC (power)

## TIBPAL16R6-15CN
designator U?
High-Performance Impact<TM> PAL<R> Circuits, N0020A, TUBE; Generic Part Number: TIBPAL16R6-15C; Manufacturer: Texas Instruments; PartNumber: TIBPAL16R6-15CN; DatasheetVersion: SRPS019A; PackageReference: N0020A; Supplier 1: Mouser; Supplier Part Number 1: 595-TIBPAL16R6-15CN; Supplier 2: Digi-Key; Supplier Part Number 2: 296-10095-5-ND; Mounting Technology: Through Hole; ComponentLink1Description: Manufacturer URL; ComponentLink1URL: http://www.ti.com/; ComponentLink2Description: Datasheet; ComponentLink2URL: http://www.ti.com/lit/ds/symlink/tibpal16r6-15c.pdf
footprint N0020A (DIP, 20-Leads, Body 26.9x6.6mm, Pitch 2.54mm)
pins: 1 CLK (in), 2 I (in), 3 I (in), 4 I (in), 5 I (in), 6 I (in), 7 I (in), 8 I (in), 9 I (in), 10 GND (power), 11 ~{OE} (in), 12 I/O (io), 13 Q (hiz), 14 Q (hiz), 15 Q (hiz), 16 Q (hiz), 17 Q (hiz), 18 Q (hiz), 19 I/O (io), 20 VCC (power)

## TIBPAL16R6-25CFN
designator U?
Low-Power High-Performance Impact<TM> PAL<R> Circuits, FN0020A, TUBE; Generic Part Number: TIBPAL16R6-25C; Manufacturer: Texas Instruments; PartNumber: TIBPAL16R6-25CFN; DatasheetVersion: SRPS059A; PackageReference: FN0020A; Supplier 1: Mouser; Supplier Part Number 1: 595-TIBPAL16R6-25CFN; Supplier 2: Digi-Key; Supplier Part Number 2: TIBPAL16R6-25CFN-ND; ComponentLink1Description: Manufacturer URL; ComponentLink1URL: http://www.ti.com/; ComponentLink2Description: Datasheet; ComponentLink2URL: http://www.ti.com/lit/ds/symlink/tibpal16r6-25c.pdf
footprint FN0020A_N (Leaded Chip Carrier, 20-Leads, Body 9.04x9.04mm, Pitch 1.27mm, IPC Medium Density)
footprint FN0020A_M (Leaded Chip Carrier, 20-Leads, Body 9.04x9.04mm, Pitch 1.27mm, IPC Low Density)
footprint FN0020A_L (Leaded Chip Carrier, 20-Leads, Body 9.04x9.04mm, Pitch 1.27mm, IPC High Density)
pins: 1 CLK (in), 2 I (in), 3 I (in), 4 I (in), 5 I (in), 6 I (in), 7 I (in), 8 I (in), 9 I (in), 10 GND (power), 11 ~{OE} (in), 12 I/O (io), 13 Q (hiz), 14 Q (hiz), 15 Q (hiz), 16 Q (hiz), 17 Q (hiz), 18 Q (hiz), 19 I/O (io), 20 VCC (power)

## TIBPAL16R6-25CN
designator U?
Low-Power High-Performance Impact<TM> PAL<R> Circuits, N0020A, TUBE; Generic Part Number: TIBPAL16R6-25C; Manufacturer: Texas Instruments; PartNumber: TIBPAL16R6-25CN; DatasheetVersion: SRPS059A; PackageReference: N0020A; Supplier 1: Mouser; Supplier Part Number 1: 595-TIBPAL16R6-25CN; Supplier 2: Digi-Key; Supplier Part Number 2: 296-26686-5-ND; Mounting Technology: Through Hole; ComponentLink1Description: Manufacturer URL; ComponentLink1URL: http://www.ti.com/; ComponentLink2Description: Datasheet; ComponentLink2URL: http://www.ti.com/lit/ds/symlink/tibpal16r6-25c.pdf
footprint N0020A (DIP, 20-Leads, Body 26.9x6.6mm, Pitch 2.54mm)
pins: 1 CLK (in), 2 I (in), 3 I (in), 4 I (in), 5 I (in), 6 I (in), 7 I (in), 8 I (in), 9 I (in), 10 GND (power), 11 ~{OE} (in), 12 I/O (io), 13 Q (hiz), 14 Q (hiz), 15 Q (hiz), 16 Q (hiz), 17 Q (hiz), 18 Q (hiz), 19 I/O (io), 20 VCC (power)

## TIBPAL16R6-30MFKB
designator U?
Low-Power High-Performance Impact<TM> PAL<R> Circuits, FK0020A, TUBE; Generic Part Number: TIBPAL16R6-30M; Manufacturer: Texas Instruments; PartNumber: TIBPAL16R6-30MFKB; Voltage Node(Nom)(V): 5; Rating: Military; DatasheetVersion: SRPS059A; PackageReference: FK0020A; Operating Temperature Range(C): -55 to 125; Code_JEDEC: MS-004; ComponentLink1Description: Manufacturer URL; ComponentLink1URL: http://www.ti.com/; ComponentLink2Description: Datasheet; ComponentLink2URL: http://www.ti.com/lit/ds/symlink/tibpal16r6-30m.pdf; ComponentLink3Description: Package Specification; ComponentLink3URL: http://www.ti.com/lit/ml/mlcc006d/mlcc006d.pdf
footprint FK0020A_N (LCC, 20-Leads, Body 8.9x8.9mm, Pitch 1.27mm, IPC Medium Density)
footprint FK0020A_M (LCC, 20-Leads, Body 8.9x8.9mm, Pitch 1.27mm, IPC Low Density)
footprint FK0020A_L (LCC, 20-Leads, Body 8.9x8.9mm, Pitch 1.27mm, IPC High Density)
pins: 1 CLK (in), 2 I (in), 3 I (in), 4 I (in), 5 I (in), 6 I (in), 7 I (in), 8 I (in), 9 I (in), 10 GND (power), 11 ~{OE} (in), 12 I/O (io), 13 Q (hiz), 14 Q (hiz), 15 Q (hiz), 16 Q (hiz), 17 Q (hiz), 18 Q (hiz), 19 I/O (io), 20 VCC (power)

## TIBPAL16R6-30MJ
designator U?
Low-Power High-Performance Impact<TM> PAL<R> Circuits, J0020A, TUBE; Generic Part Number: TIBPAL16R6-30M; Manufacturer: Texas Instruments; PartNumber: TIBPAL16R6-30MJ; Voltage Node(Nom)(V): 5; Rating: Military; DatasheetVersion: SRPS059A; PackageReference: J0020A; Operating Temperature Range(C): -55 to 125; ComponentLink1Description: Manufacturer URL; ComponentLink1URL: http://www.ti.com/; ComponentLink2Description: Datasheet; ComponentLink2URL: http://www.ti.com/lit/ds/symlink/tibpal16r6-30m.pdf
footprint J0020A (DIP, 20-Leads, Body 26.9x7.2mm, Pitch 2.54mm)
pins: 1 CLK (in), 2 I (in), 3 I (in), 4 I (in), 5 I (in), 6 I (in), 7 I (in), 8 I (in), 9 I (in), 10 GND (power), 11 ~{OE} (in), 12 I/O (io), 13 Q (hiz), 14 Q (hiz), 15 Q (hiz), 16 Q (hiz), 17 Q (hiz), 18 Q (hiz), 19 I/O (io), 20 VCC (power)

## TIBPAL16R6-30MJB
designator U?
Low-Power High-Performance Impact<TM> PAL<R> Circuits, J0020A, TUBE; Generic Part Number: TIBPAL16R6-30M; Manufacturer: Texas Instruments; PartNumber: TIBPAL16R6-30MJB; Voltage Node(Nom)(V): 5; Rating: Military; DatasheetVersion: SRPS059A; PackageReference: J0020A; Operating Temperature Range(C): -55 to 125; ComponentLink1Description: Manufacturer URL; ComponentLink1URL: http://www.ti.com/; ComponentLink2Description: Datasheet; ComponentLink2URL: http://www.ti.com/lit/ds/symlink/tibpal16r6-30m.pdf
footprint J0020A (DIP, 20-Leads, Body 26.9x7.2mm, Pitch 2.54mm)
pins: 1 CLK (in), 2 I (in), 3 I (in), 4 I (in), 5 I (in), 6 I (in), 7 I (in), 8 I (in), 9 I (in), 10 GND (power), 11 ~{OE} (in), 12 I/O (io), 13 Q (hiz), 14 Q (hiz), 15 Q (hiz), 16 Q (hiz), 17 Q (hiz), 18 Q (hiz), 19 I/O (io), 20 VCC (power)

## TIBPAL16R6-30MWB
designator U?
Low-Power High-Performance Impact<TM> PAL<R> Circuits, W0020A, TUBE; Generic Part Number: TIBPAL16R6-30M; Manufacturer: Texas Instruments; PartNumber: TIBPAL16R6-30MWB; Voltage Node(Nom)(V): 5; Rating: Military; DatasheetVersion: SRPS059A; PackageReference: W0020A; Operating Temperature Range(C): -55 to 125; ComponentLink1Description: Manufacturer URL; ComponentLink1URL: http://www.ti.com/; ComponentLink2Description: Datasheet; ComponentLink2URL: http://www.ti.com/lit/ds/symlink/tibpal16r6-30m.pdf
footprint W0020A_N (CFP, 20-Leads, Body 13.72x7.62mm, Pitch 1.27mm, IPC Medium Density)
footprint W0020A_M (CFP, 20-Leads, Body 13.72x7.62mm, Pitch 1.27mm, IPC Low Density)
footprint W0020A_L (CFP, 20-Leads, Body 13.72x7.62mm, Pitch 1.27mm, IPC High Density)
pins: 1 CLK (in), 2 I (in), 3 I (in), 4 I (in), 5 I (in), 6 I (in), 7 I (in), 8 I (in), 9 I (in), 10 GND (power), 11 ~{OE} (in), 12 I/O (io), 13 Q (hiz), 14 Q (hiz), 15 Q (hiz), 16 Q (hiz), 17 Q (hiz), 18 Q (hiz), 19 I/O (io), 20 VCC (power)

## TIBPAL16R8-15CFN
designator U?
High-Performance Impact<TM> PAL<R> Circuits, FN0020A, TUBE; Generic Part Number: TIBPAL16R8-15C; Manufacturer: Texas Instruments; PartNumber: TIBPAL16R8-15CFN; DatasheetVersion: SRPS019A; PackageReference: FN0020A; Supplier 1: Mouser; Supplier Part Number 1: 595-TIBPAL16R8-15CFN; Supplier 2: Digi-Key; Supplier Part Number 2: TIBPAL16R8-15CFN-ND; ComponentLink1Description: Manufacturer URL; ComponentLink1URL: http://www.ti.com/; ComponentLink2Description: Datasheet; ComponentLink2URL: http://www.ti.com/lit/ds/symlink/tibpal16r8-15c.pdf
footprint FN0020A_N (Leaded Chip Carrier, 20-Leads, Body 9.04x9.04mm, Pitch 1.27mm, IPC Medium Density)
footprint FN0020A_M (Leaded Chip Carrier, 20-Leads, Body 9.04x9.04mm, Pitch 1.27mm, IPC Low Density)
footprint FN0020A_L (Leaded Chip Carrier, 20-Leads, Body 9.04x9.04mm, Pitch 1.27mm, IPC High Density)
pins: 1 CLK (in), 2 I (in), 3 I (in), 4 I (in), 5 I (in), 6 I (in), 7 I (in), 8 I (in), 9 I (in), 10 GND (power), 11 ~{OE} (in), 12 Q (hiz), 13 Q (hiz), 14 Q (hiz), 15 Q (hiz), 16 Q (hiz), 17 Q (hiz), 18 Q (hiz), 19 Q (hiz), 20 VCC (power)

## TIBPAL16R8-15CN
designator U?
High-Performance Impact<TM> PAL<R> Circuits, N0020A, TUBE; Generic Part Number: TIBPAL16R8-15C; Manufacturer: Texas Instruments; PartNumber: TIBPAL16R8-15CN; DatasheetVersion: SRPS019A; PackageReference: N0020A; Supplier 1: Mouser; Supplier Part Number 1: 595-TIBPAL16R8-15CN; Supplier 2: Digi-Key; Supplier Part Number 2: 296-10096-5-ND; Mounting Technology: Through Hole; ComponentLink1Description: Manufacturer URL; ComponentLink1URL: http://www.ti.com/; ComponentLink2Description: Datasheet; ComponentLink2URL: http://www.ti.com/lit/ds/symlink/tibpal16r8-15c.pdf
footprint N0020A (DIP, 20-Leads, Body 26.9x6.6mm, Pitch 2.54mm)
pins: 1 CLK (in), 2 I (in), 3 I (in), 4 I (in), 5 I (in), 6 I (in), 7 I (in), 8 I (in), 9 I (in), 10 GND (power), 11 ~{OE} (in), 12 Q (hiz), 13 Q (hiz), 14 Q (hiz), 15 Q (hiz), 16 Q (hiz), 17 Q (hiz), 18 Q (hiz), 19 Q (hiz), 20 VCC (power)

## TIBPAL16R8-25CFN
designator U?
Low-Power High-Performance Impact<TM> PAL<R> Circuits, FN0020A, TUBE; Generic Part Number: TIBPAL16R8-25C; Manufacturer: Texas Instruments; PartNumber: TIBPAL16R8-25CFN; DatasheetVersion: SRPS059A; PackageReference: FN0020A; Supplier 1: Mouser; Supplier Part Number 1: 595-TIBPAL16R8-25CFN; Supplier 2: Digi-Key; Supplier Part Number 2: 296-10097-5-ND; ComponentLink1Description: Manufacturer URL; ComponentLink1URL: http://www.ti.com/; ComponentLink2Description: Datasheet; ComponentLink2URL: http://www.ti.com/lit/ds/symlink/tibpal16r8-25c.pdf
footprint FN0020A_N (Leaded Chip Carrier, 20-Leads, Body 9.04x9.04mm, Pitch 1.27mm, IPC Medium Density)
footprint FN0020A_M (Leaded Chip Carrier, 20-Leads, Body 9.04x9.04mm, Pitch 1.27mm, IPC Low Density)
footprint FN0020A_L (Leaded Chip Carrier, 20-Leads, Body 9.04x9.04mm, Pitch 1.27mm, IPC High Density)
pins: 1 CLK (in), 2 I (in), 3 I (in), 4 I (in), 5 I (in), 6 I (in), 7 I (in), 8 I (in), 9 I (in), 10 GND (power), 11 ~{OE} (in), 12 Q (hiz), 13 Q (hiz), 14 Q (hiz), 15 Q (hiz), 16 Q (hiz), 17 Q (hiz), 18 Q (hiz), 19 Q (hiz), 20 VCC (power)

## TIBPAL16R8-25CN
designator U?
Low-Power High-Performance Impact<TM> PAL<R> Circuits, N0020A, TUBE; Generic Part Number: TIBPAL16R8-25C; Manufacturer: Texas Instruments; PartNumber: TIBPAL16R8-25CN; DatasheetVersion: SRPS059A; PackageReference: N0020A; Supplier 1: Mouser; Supplier Part Number 1: 595-TIBPAL16R8-25CN; Supplier 2: Digi-Key; Supplier Part Number 2: 296-10098-5-ND; Mounting Technology: Through Hole; ComponentLink1Description: Manufacturer URL; ComponentLink1URL: http://www.ti.com/; ComponentLink2Description: Datasheet; ComponentLink2URL: http://www.ti.com/lit/ds/symlink/tibpal16r8-25c.pdf
footprint N0020A (DIP, 20-Leads, Body 26.9x6.6mm, Pitch 2.54mm)
pins: 1 CLK (in), 2 I (in), 3 I (in), 4 I (in), 5 I (in), 6 I (in), 7 I (in), 8 I (in), 9 I (in), 10 GND (power), 11 ~{OE} (in), 12 Q (hiz), 13 Q (hiz), 14 Q (hiz), 15 Q (hiz), 16 Q (hiz), 17 Q (hiz), 18 Q (hiz), 19 Q (hiz), 20 VCC (power)

## TIBPAL16R8-30MFKB
designator U?
Low-Power High-Performance Impact<TM> PAL<R> Circuits, FK0020A, TUBE; Generic Part Number: TIBPAL16R8-30M; Manufacturer: Texas Instruments; PartNumber: TIBPAL16R8-30MFKB; Voltage Node(Nom)(V): 5; Rating: Military; DatasheetVersion: SRPS059A; PackageReference: FK0020A; Operating Temperature Range(C): -55 to 125; Code_JEDEC: MS-004; ComponentLink1Description: Manufacturer URL; ComponentLink1URL: http://www.ti.com/; ComponentLink2Description: Datasheet; ComponentLink2URL: http://www.ti.com/lit/ds/symlink/tibpal16r8-30m.pdf; ComponentLink3Description: Package Specification; ComponentLink3URL: http://www.ti.com/lit/ml/mlcc006d/mlcc006d.pdf
footprint FK0020A_N (LCC, 20-Leads, Body 8.9x8.9mm, Pitch 1.27mm, IPC Medium Density)
footprint FK0020A_M (LCC, 20-Leads, Body 8.9x8.9mm, Pitch 1.27mm, IPC Low Density)
footprint FK0020A_L (LCC, 20-Leads, Body 8.9x8.9mm, Pitch 1.27mm, IPC High Density)
pins: 1 CLK (in), 2 I (in), 3 I (in), 4 I (in), 5 I (in), 6 I (in), 7 I (in), 8 I (in), 9 I (in), 10 GND (power), 11 ~{OE} (in), 12 Q (hiz), 13 Q (hiz), 14 Q (hiz), 15 Q (hiz), 16 Q (hiz), 17 Q (hiz), 18 Q (hiz), 19 Q (hiz), 20 VCC (power)

## TIBPAL16R8-30MJB
designator U?
Low-Power High-Performance Impact<TM> PAL<R> Circuits, J0020A, TUBE; Generic Part Number: TIBPAL16R8-30M; Manufacturer: Texas Instruments; PartNumber: TIBPAL16R8-30MJB; Voltage Node(Nom)(V): 5; Rating: Military; DatasheetVersion: SRPS059A; PackageReference: J0020A; Operating Temperature Range(C): -55 to 125; ComponentLink1Description: Manufacturer URL; ComponentLink1URL: http://www.ti.com/; ComponentLink2Description: Datasheet; ComponentLink2URL: http://www.ti.com/lit/ds/symlink/tibpal16r8-30m.pdf
footprint J0020A (DIP, 20-Leads, Body 26.9x7.2mm, Pitch 2.54mm)
pins: 1 CLK (in), 2 I (in), 3 I (in), 4 I (in), 5 I (in), 6 I (in), 7 I (in), 8 I (in), 9 I (in), 10 GND (power), 11 ~{OE} (in), 12 Q (hiz), 13 Q (hiz), 14 Q (hiz), 15 Q (hiz), 16 Q (hiz), 17 Q (hiz), 18 Q (hiz), 19 Q (hiz), 20 VCC (power)

## TIBPAL16R8-30MWB
designator U?
Low-Power High-Performance Impact<TM> PAL<R> Circuits, W0020A, TUBE; Generic Part Number: TIBPAL16R8-30M; Manufacturer: Texas Instruments; PartNumber: TIBPAL16R8-30MWB; Voltage Node(Nom)(V): 5; Rating: Military; DatasheetVersion: SRPS059A; PackageReference: W0020A; Operating Temperature Range(C): -55 to 125; ComponentLink1Description: Manufacturer URL; ComponentLink1URL: http://www.ti.com/; ComponentLink2Description: Datasheet; ComponentLink2URL: http://www.ti.com/lit/ds/symlink/tibpal16r8-30m.pdf
footprint W0020A_N (CFP, 20-Leads, Body 13.72x7.62mm, Pitch 1.27mm, IPC Medium Density)
footprint W0020A_M (CFP, 20-Leads, Body 13.72x7.62mm, Pitch 1.27mm, IPC Low Density)
footprint W0020A_L (CFP, 20-Leads, Body 13.72x7.62mm, Pitch 1.27mm, IPC High Density)
pins: 1 CLK (in), 2 I (in), 3 I (in), 4 I (in), 5 I (in), 6 I (in), 7 I (in), 8 I (in), 9 I (in), 10 GND (power), 11 ~{OE} (in), 12 Q (hiz), 13 Q (hiz), 14 Q (hiz), 15 Q (hiz), 16 Q (hiz), 17 Q (hiz), 18 Q (hiz), 19 Q (hiz), 20 VCC (power)

## TIBPAL20L8-5CFN
designator U?
High-Performance Impact-X<TM> PAL<R> Circuits, FN0028A, TUBE; Generic Part Number: TIBPAL20L8-5C; Manufacturer: Texas Instruments; PartNumber: TIBPAL20L8-5CFN; DatasheetVersion: SRPS010F; PackageReference: FN0028A; Supplier 1: Mouser; Supplier Part Number 1: 595-TIBPAL20L8-5CFN; Supplier 2: Digi-Key; Supplier Part Number 2: 296-10101-5-ND; ComponentLink1Description: Manufacturer URL; ComponentLink1URL: http://www.ti.com/; ComponentLink2Description: Datasheet; ComponentLink2URL: http://www.ti.com/lit/ds/symlink/tibpal20l8-5c.pdf
footprint FN0028A_N (Leaded Chip Carrier, 28-Leads, Body 11.58x11.58mm, Pitch 1.27mm, IPC Medium Density)
footprint FN0028A_M (Leaded Chip Carrier, 28-Leads, Body 11.58x11.58mm, Pitch 1.27mm, IPC Low Density)
footprint FN0028A_L (Leaded Chip Carrier, 28-Leads, Body 11.58x11.58mm, Pitch 1.27mm, IPC High Density)
pins: 1 NC, 2 I (in), 3 I (in), 4 I (in), 5 I (in), 6 I (in), 7 I (in), 8 NC, 9 I (in), 10 I (in), 11 I (in), 12 I (in), 13 I (in), 14 GND (power), 15 NC, 16 I (in), 17 I (in), 18 O (hiz), 19 I/O (io), 20 I/O (io), 21 I/O (io), 22 NC, 23 I/O (io), 24 I/O (io), 25 I/O (io), 26 O (hiz), 27 I (in), 28 VCC (power)